# EAGLE library part FDMC8030 (library FDMC8030)
Dual N-Channel Power Trench® MOSFET 40 V, 12 A, 10 mΩ
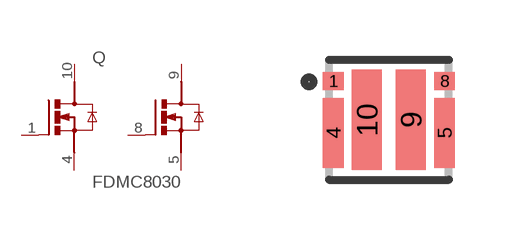
[diagram p0: symbol with the pads of TRANS_FDMC8030; footprint TRANS_FDMC8030]

Designator prefix Q

## FDMC8030 (Availability: Unavailable; Description: Mosfet Array 2 N-Channel _Dual_ 40V 12A 800mW Surface Mount 8-Power33 _3x3_; MF: ON Semiconductor; MP: FDMC8030; Package: PowerWDFN-8 ON Semiconductor; Price: None)  [TRANS_FDMC8030]
1  G1  pas
4  S1  pas
5  S2  pas
8  G2  pas
9  D2  pas
10  D1  pas

## Footprint TRANS_FDMC8030 (pad centres in mm)
smd 0.52 x 0.45: 1 -1.39,0.975; 8 1.39,0.975
smd 0.52 x 1.75: 4 -1.39,-0.325; 5 1.39,-0.325
smd 0.75 x 2.52: 9 0.55,0; 10 -0.55,0